# Altium schematic symbol library Diodes Incorporated - Switching Regulator.SchLib: 1 symbol
Pins are listed as number, name and electrical type; pins without a type are passive.

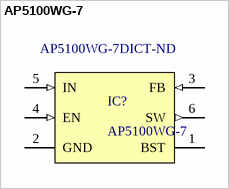
[diagram p0: symbol AP5100WG-7]

## AP5100WG-7
designator IC?  Supplier Part Number 1: AP5100WG-7DICT-ND
Buck Switching Regulator IC Positive Adjustable 0.81V 1 Output 1.2A SOT-23-6; MF: Diodes Inc.; MP: AP5100WG-7; Digi-Key_Purchase_URL: https://www.digikey.com/product-detail/en/diodes-incorporated/AP5100WG-7/AP5100WG-7DICT-ND/2277839?utm_source=snapeda&utm_medium=aggregator&utm_campaign=symbol; Package: SOT-23-6 Diodes Inc.; SnapEDA_Link: https://www.snapeda.com/parts/AP5100WG-7/Diodes%20Inc./view-part/44386/?ref=snap; Value: *; Digi-Key_Part_Number: AP5100WG-7DICT-ND; Supplier 1: Digi-Key
footprint SOT95P285X140-6N
pins: 1 BST, 2 GND (power), 3 FB (in), 4 EN (in), 5 IN (in), 6 SW (out)